# Altium integrated library Electromechanics.IntLib: 2 symbols
Pins are listed as number, name and electrical type; pins without a type are passive.

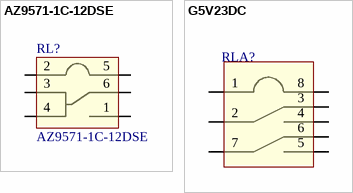
[diagram p0: symbols AZ9571-1C-12DSE to G5V23DC]

## AZ9571-1C-12DSE
designator RL?
Relay Signal SPDT 1A 12VDC
footprint AZ9571-1C-12DSE
pins: 1, 2, 3, 4, 5, 6

## G5V23DC
designator RLA?
No Description Available; Manufacturer_Part_Number: G5V23DC; Vendor: OMRON; Built_By: EMA_UL_Team; SourceLibrary: Omron_2012-08-08_Relays_2; Copyright: Copyright (C) 2018 Accelerated Designs. All rights reserved; RefDes: RefDes; Type: DEV
footprint RELAY_G5V-2_OMR
pins: 1, 2 3, 3 5, 4, 5 7, 6 8, 7 6, 8 2